# EAGLE library part 47589-0001 (library neopixel_board)
Stainless Steel Extractor for Camera Socket, 6.5x6.5 Type, Lead free https://www.digikey.com/product-detail/en/molex/0475890001/WM17143TR-ND/1832253
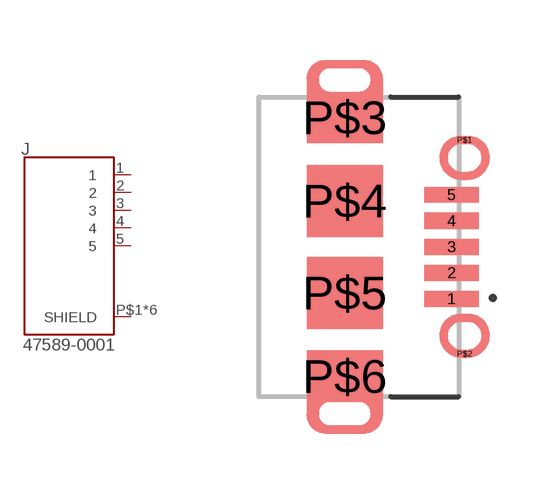
[diagram p0: symbol with the pads of MOLEX_47589-0001; footprint MOLEX_47589-0001]

Designator prefix J

## 47589-0001 (DESCRIPTION: Stainless Steel Extractor for Camera Socket, 6.5x6.5 Type, Lead free; MF: Molex; MP: 47589-0001; PACKAGE: None)  [MOLEX_47589-0001]
1  1  pas
2  2  pas
3  3  pas
4  4  pas
5  5  pas
P$1  SHIELD  pas
P$2  SHIELD  pas
P$3  SHIELD  pas
P$4  SHIELD  pas
P$5  SHIELD  pas
P$6  SHIELD  pas

## Footprint MOLEX_47589-0001 (pad centres in mm)
https://www.digikey.com/product-detail/en/molex/0475890001/WM17143TR-ND/1832253
smd 1.35 x 0.4: 1 2.675,-1.3; 2 2.675,-0.65; 3 2.675,0; 4 2.675,0.65; 5 2.675,1.3
smd 0.01 x 0.01: P$1 3,2.675; P$2 3,-2.675
smd 1.9 x 1.275: P$3 0,3.237; P$6 0,-3.237
smd 1.9 x 1.8: P$4 0,1.15; P$5 0,-1.15